# Altium footprint library DT1240-04LP-7.PcbLib: 1 footprints
Each footprint in its own frame and in the unit in brackets; x right, y up, seen from the top. Pads: shape width x height; smd on the part's side, far side on the other; paste and mask are expansions set on the pad; w line width, h text height; cw(c..) or ccw(c..) is an arc to the next point about the centre after c.
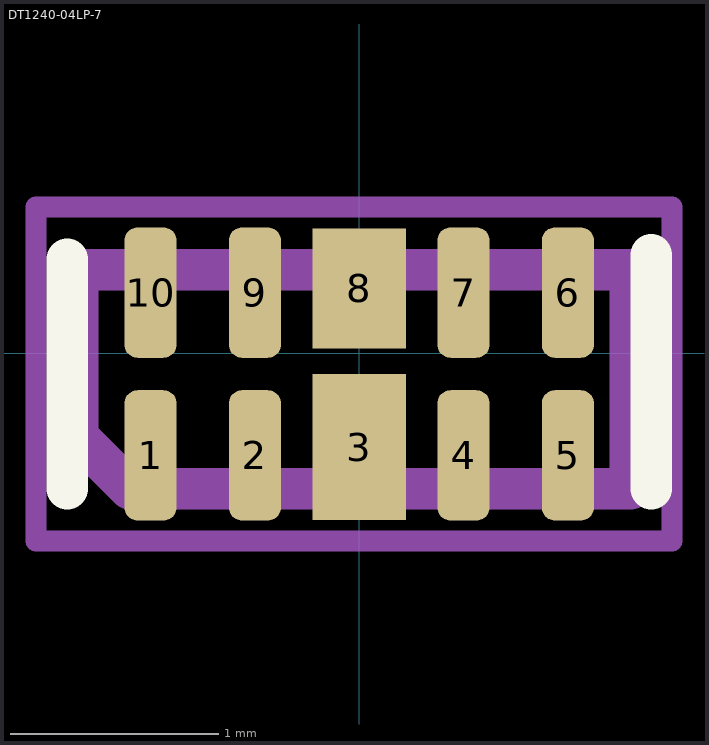
[diagram p0: the footprint, top view; thin cyan lines are the x and y axes]

## DT1240-04LP-7 [mm]
pads (10):
  rrect50% 0.25x0.625 smd mask+0: 1(-1,-0.49) 2(-0.5,-0.49) 4(0.5,-0.49) 5(1,-0.49) 6(1,0.29) 7(0.5,0.29) 9(-0.5,0.29) 10(-1,0.29)
  rect 0.45x0.7 smd mask+0: 3(0,-0.45)
  rect 0.45x0.575 smd mask+0: 8(0,0.31)
Top Overlay:
  lines w0.2: -1.4,-0.65 -1.4,0.45 ; 1.4,-0.65 1.4,0.47
Mechanical 3:
  lines w0.2: -1.35,-0.4 -1.35,0.4 1.3,0.4 1.3,-0.65 -1.1,-0.65 -1.35,-0.4
Mechanical 7:
  lines w0.1: -1.55,-0.9 1.5,-0.9 1.5,0.7 -1.55,0.7 -1.55,-0.45 -1.55,-0.9
Mechanical 9:
  text "'.Designator'" at -5.895,-0.3 h1.02
3D body: height 0.61, standoff -0.5, extent -1.55,-0.9 1.5,0.7
3D body "DFN2510-10_STP.stp": height 0.59, standoff 0.01, extent -1.25,-0.6 1.25,0.4